# Altium integrated library XL6019E1.IntLib: 1 symbol
Pins are listed as number, name and electrical type; pins without a type are passive.

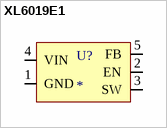
[diagram p0: symbol XL6019E1]

## XL6019E1
designator U?
IC-6019 DC/DC CONVERTER 180KHZ 60V 5A TO263-5L; MF: XLSEMI; MP: XL4015; SnapEDA_Link: https://www.snapeda.com/parts/XL4015/XLSEMI/view-part/?ref=snap; Package: None; Value: *; Check_prices: https://www.snapeda.com/parts/XL4015/XLSEMI/view-part/?ref=eda
footprint XL6019E1 (IC-6019 DC/DC CONVERTER 180KHZ 60V 5A TO263-5L)
pins: 1 GND, 2 EN, 3 SW, 4 VIN, 5 FB